# Altium schematic symbol library GRT188R61A106ME13D.SchLib: 1 symbol
Pins are listed as number, name and electrical type; pins without a type are passive.

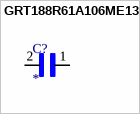
[diagram p0: symbol GRT188R61A106ME13D]

## GRT188R61A106ME13D
designator C?
CAP CER 10UF 10V X5R 0603; MP: GRT188R61A106ME13D; MF: {'manufacturer': u'Murata'}; Price: None; Availability: Unavailable; Value: *; Package: None
footprint CAPC1608X9N
pins: 1, 2